# Altium footprint library 1932638-3.PcbLib: 1 footprints
Each footprint in its own frame and in the unit in brackets; x right, y up, seen from the top. Pads: shape width x height; smd on the part's side, far side on the other; paste and mask are expansions set on the pad; w line width, h text height; cw(c..) or ccw(c..) is an arc to the next point about the centre after c.
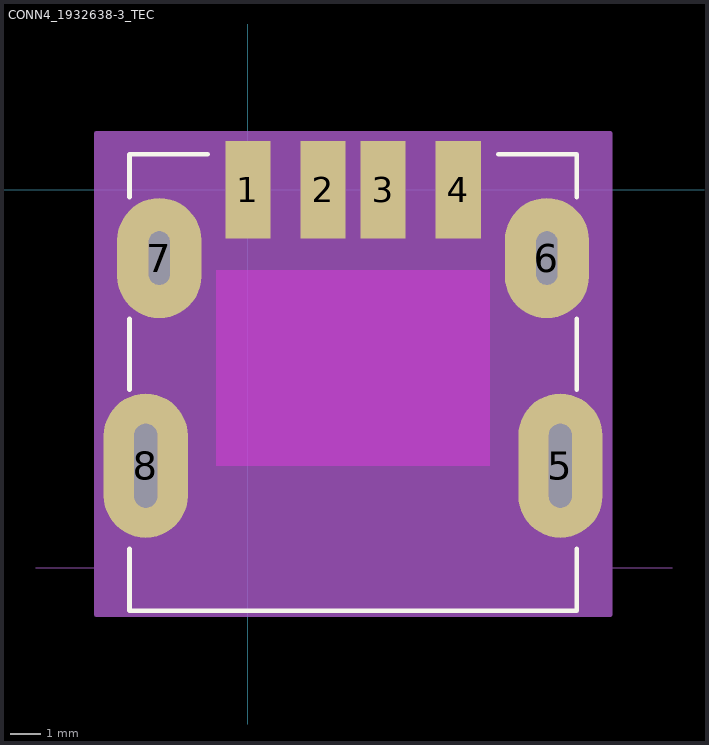
[diagram p0: the footprint, top view; thin cyan lines are the x and y axes]

## CONN4_1932638-3_TEC [mm]
pads (8):
  rect 1.5x3.25 smd paste+0 mask+0: 1(0,0) 2(2.5,0) 3(4.5,0) 4(7,0)
  oval 2.8x4.8 hole 0.762 slot 2.794 at 90 deg mask+0: 5(10.4,-9.18) 8(-3.4,-9.18)
  oval 2.8x4 hole 0.7 slot 1.778 at 90 deg mask+0: 6(9.95,-2.27) 7(-2.95,-2.27)
Top Layer keep-out:
  region: -1.05,-2.68 -1.05,-9.18 8.05,-9.18 8.05,-2.68
Top Overlay:
  lines w0.152: -3.942,-11.949 -3.942,-14.007 10.942,-14.007 10.942,-11.949 ; -3.942,-6.657 -3.942,-4.291 ; -3.942,-0.249 -3.942,1.187 -1.333,1.187 ; 8.333,1.187 10.942,1.187 10.942,-0.249 ; 10.942,-6.657 10.942,-4.291
Mechanical 13:
  circle w0.508: c-1.524,0.254 r0.381
  lines w0.025: -7.06,-12.58 14.12,-12.58 ; -3.815,-13.88 -3.815,1.06 10.815,1.06 10.815,-13.88 -3.815,-13.88
  text "PCB EDGE" at 1.524,-13.843 h1.27
Mechanical 15:
  region: 12.054,1.879 12.054,-14.134 -5.054,-14.134 -5.054,1.879
  lines w0.152: -5.054,-14.134 12.054,-14.134 12.054,1.879 -5.054,1.879 -5.054,-14.134
3D body "c-1932638-3-e-3d.stp": height 7.62, standoff -1.24, extent -3.835,-13.82 10.795,1.12